# EAGLE library part ACS711 (library acs711)
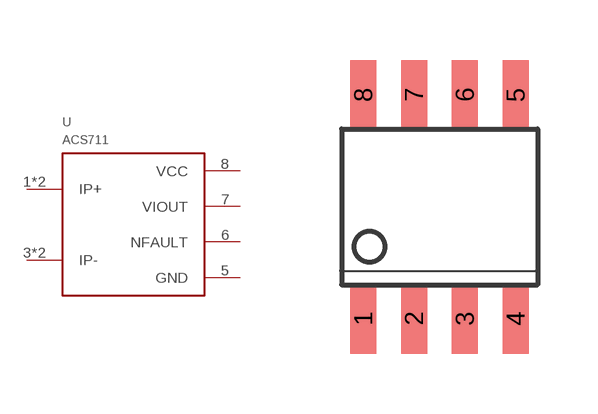
[diagram p0: symbol with the pads of SOIC8; footprint SOIC8]

Designator prefix -

## ACS711  [SOIC8]
1  IP+
2  IP+
3  IP-
4  IP-
5  GND
6  NFAULT
7  VIOUT
8  VCC

## Footprint SOIC8 (pad centres in mm)
smd 0.65 x 1.75: 1 -1.905,-2.8; 2 -0.635,-2.8; 3 0.635,-2.8; 4 1.905,-2.8; 5 1.905,2.8; 6 0.635,2.8; 7 -0.635,2.8; 8 -1.905,2.8